# Altium footprint library SC70-6.PcbLib: 1 footprints
Each footprint in its own frame and in the unit in brackets; x right, y up, seen from the top. Pads: shape width x height; smd on the part's side, far side on the other; paste and mask are expansions set on the pad; w line width, h text height; cw(c..) or ccw(c..) is an arc to the next point about the centre after c.
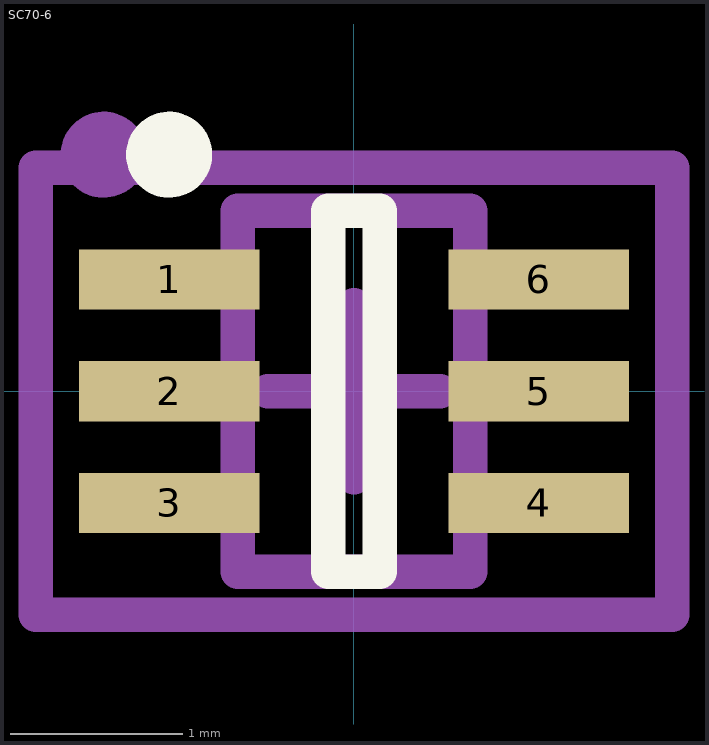
[diagram p0: the footprint, top view; thin cyan lines are the x and y axes]

## SC70-6 [mm] "SOT23, 6-Leads, Body 2,1x2,1mm (max), Pitch 0,65mm, IPC Medium Density"
height 1.1
pads (6):
  rect 1.05x0.35 smd: 1(-1.075,0.65) 2(-1.075,0) 3(-1.075,-0.65) 4(1.075,-0.65) 5(1.075,0) 6(1.075,0.65)
Top Overlay:
  circle w0.25: c-1.075,1.375 r0.125
  lines w0.2: -0.15,-1.05 0.15,-1.05 0.15,1.05 -0.15,1.05 -0.15,-1.05
Mechanical 13:
  circle w0.25: c-1.456,1.375 r0.125
  lines w0.2: -0.675,-1.05 -0.675,1.05 0.675,1.05 0.675,-1.05 -0.675,-1.05
  text ".Designator" at -0.635,1.524 h1.5
Mechanical 15:
  lines w0.2: -0.5,0 0.5,0 ; 0,-0.5 0,0.5 ; -1.85,-1.3 -1.85,1.3 1.85,1.3 1.85,-1.3 -1.85,-1.3
3D body: height 0.92, standoff -0.03, extent -1.05,-1.016 1.05,0.984